# Altium footprint library Chips.PcbLib: 116 footprints (part 7 of 8)
Each footprint in its own frame and in the unit in brackets; x right, y up, seen from the top. Pads: shape width x height; smd on the part's side, far side on the other; paste and mask are expansions set on the pad; w line width, h text height; cw(c..) or ccw(c..) is an arc to the next point about the centre after c.
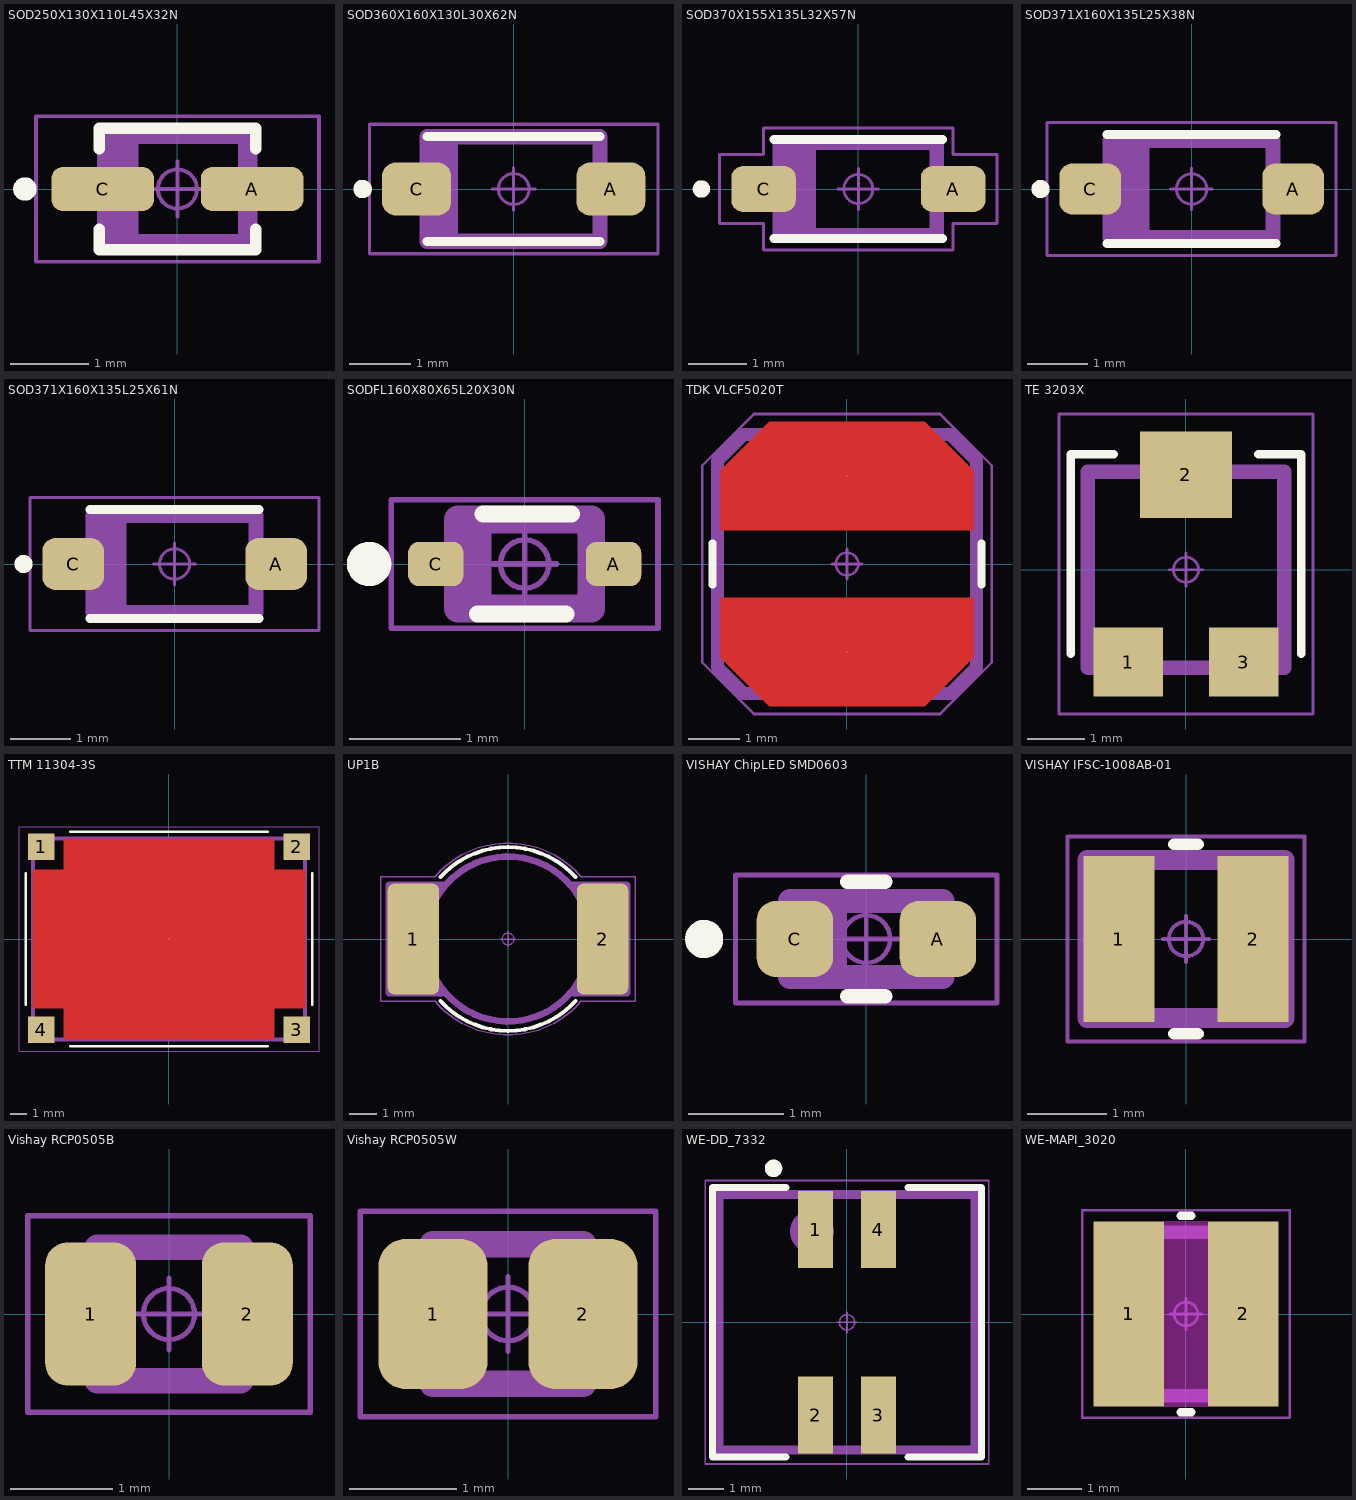
[diagram p6: the footprints below, top view; thin cyan lines are the x and y axes]

## SOD250X130X110L45X32N [mm] "Diode, Small Outline Diode (SOD); 1.75 mm L X 1.30 mm W X 1.10 mm H body"
height 1.1
pads (2):
  rrect50% 1.31x0.56 smd: A(0.955,0) C(-0.955,0)
Top Overlay:
  circle w0.15: c-1.95,0 r0.075
  lines w0.145: -1,-0.515 -1,-0.775 1,-0.775 1,-0.515 ; -1,0.515 -1,0.775 1,0.775 1,0.515
Top Assembly:
  rectangle: -0.9,-0.7 -0.5,0.7
  lines w0.25: -0.9,-0.7 -0.9,0.7 0.9,0.7 0.9,-0.7 -0.9,-0.7
  text ".Designator" at -2.1,1.2 h1.5
Top Courtyard:
  circle w0.05: c0,0 r0.25
  lines w0.05: -0.35,0 0.35,0 ; 0,-0.35 0,0.35 ; -1.81,-0.93 -1.81,0.93 1.81,0.93 1.81,-0.93 -1.81,-0.93
3D body "SOD250X130X110L45X32.STEP": height 1.1, standoff 0, extent -1.25,-0.65 1.25,0.65

## SOD360X160X130L30X62N [mm] "Diode, Small Outline Diode (SOD); 2.675 mm L X 1.60 mm W X 1.30 mm H body"
height 1.3
pads (2):
  rrect51% 1.12x0.86 smd: A(1.575,0) C(-1.575,0)
Top Overlay:
  circle w0.15: c-2.45,0 r0.075
  lines w0.15: -1.4,-0.85 1.4,-0.85 ; -1.4,0.85 1.4,0.85
Top Assembly:
  rectangle: -1.375,-0.85 -0.9,0.825
  lines w0.25: -1.4,-0.85 -1.4,0.85 1.4,0.85 1.4,-0.85 -1.4,-0.85
  text ".Designator" at 0,0 h1.5
Top Courtyard:
  circle w0.05: c0,0 r0.25
  lines w0.05: -0.35,0 0.35,0 ; 0,-0.35 0,0.35 ; -2.34,-1.05 -2.34,1.05 2.34,1.05 2.34,-1.05 -2.34,-1.05
3D body "SOD360X160X130L30X62.STEP": height 1.3, standoff 0, extent -1.8,-0.8 1.8,0.8

## SOD370X155X135L32X57N [mm] "Diode, Small Outline Diode (SOD); 2.70 mm L X 1.55 mm W X 1.35 mm H body"
height 1.35
pads (2):
  rrect51% 1.11x0.79 smd: A(1.63,0) C(-1.63,0)
Top Overlay:
  circle w0.15: c-2.7,0 r0.075
  lines w0.15: -1.45,-0.85 1.45,-0.85 ; -1.45,0.85 1.45,0.85
Top Assembly:
  rectangle: -1.35,-0.8 -0.73,0.8
  lines w0.25: -1.35,-0.8 1.35,-0.8 1.35,0.8 -1.35,0.8 -1.35,-0.8
  text ".Designator" at -0.6,-0.5 h1.5
Top Courtyard:
  circle w0.05: c0,0 r0.25
  lines w0.05: -0.35,0 0.35,0 ; 0,-0.35 0,0.35 ; -2.385,-0.595 -1.63,-0.595 -1.63,-1.05 1.63,-1.05 1.63,-0.595 2.385,-0.595 2.385,0.595 1.63,0.595 1.63,1.05 -1.63,1.05 -1.63,0.595 -2.385,0.595 -2.385,-0.595
3D body "SOD370X155X135L32X57.STEP": height 1.35, standoff 0, extent -1.85,-0.775 1.85,0.775

## SOD371X160X135L25X38N [mm] "Diode, Small Outline Diode (SOD); 2.69 mm L X 1.60 mm W X 1.35 mm H body"
height 1.35
pads (2):
  rrect50% 1.02x0.84 smd: A(1.68,0) C(-1.68,0)
Top Overlay:
  circle w0.15: c-2.5,0 r0.075
  lines w0.15: -1.4,-0.9 1.4,-0.9 ; -1.4,0.9 1.4,0.9
Top Assembly:
  rectangle: -1.35,-0.8 -0.7,0.8
  lines w0.25: -1.35,-0.8 -1.35,0.8 1.35,0.8 1.35,-0.8 -1.35,-0.8
  text ".Designator" at -1.4,1.3 h1.5
Top Courtyard:
  circle w0.05: c0,0 r0.25
  lines w0.05: -0.35,0 0.35,0 ; 0,-0.35 0,0.35 ; -2.39,-1.1 -2.39,1.1 2.39,1.1 2.39,-1.1 -2.39,-1.1
3D body "SOD371X160X135L25X38.STEP": height 1.35, standoff 0, extent -1.855,-0.8 1.855,0.8

## SOD371X160X135L25X61N [mm] "Diode, Small Outline Diode (SOD); 2.69 mm L X 1.60 mm W X 1.35 mm H body"
height 1.35
pads (2):
  rrect51% 1.02x0.86 smd: A(1.68,0) C(-1.68,0)
Top Overlay:
  circle w0.15: c-2.5,0 r0.075
  lines w0.15: -1.4,-0.9 1.4,-0.9 ; -1.4,0.9 1.4,0.9
Top Assembly:
  rectangle: -1.3,-0.8 -0.8,0.8
  lines w0.25: -1.35,-0.8 -1.35,0.8 1.35,0.8 1.35,-0.8 -1.35,-0.8
  text ".Designator" at -3.378,1.661 h1.5
Top Courtyard:
  circle w0.05: c0,0 r0.25
  lines w0.05: -0.35,0 0.35,0 ; 0,-0.35 0,0.35 ; -2.39,-1.1 -2.39,1.1 2.39,1.1 2.39,-1.1 -2.39,-1.1
3D body "SOD371X160X135L25X61.STEP": height 1.35, standoff 0, extent -1.855,-0.8 1.855,0.8

## SODFL160X80X65L20X30N [mm] "Diode, Small Outline Diode Flat Lead (SODFL); 1.20 mm L X 0.80 mm W X 0.65 mm H body"
height 0.65
pads (2):
  rrect50% 0.5x0.4 smd: A(0.8,0) C(-0.8,0)
Top Overlay:
  circle w0.2: c-1.4,0 r0.1
  lines w0.15: -0.425,-0.45 0.375,-0.45 ; -0.375,0.45 0.425,0.45
Top Assembly:
  rectangle: -0.6,-0.4 -0.3,0.4
  lines w0.25: -0.6,-0.4 -0.6,0.4 0.6,0.4 0.6,-0.4 -0.6,-0.4
  text ".Designator" at -2,0.8 h1.5
Top Courtyard:
  circle w0.05: c0,0 r0.218
  lines w0.05: -0.29,0 0.29,0 ; 0,-0.29 0,0.29 ; -1.2,-0.58 -1.2,0.58 1.2,0.58 1.2,-0.58 -1.2,-0.58
3D body "SODFL160X80X65L20X30.STEP": height 0.65, standoff 0, extent -0.8,-0.4 0.8,0.4

## TDK VLCF5020T [mil] "TDK 5x5x2 WOUND FERRITE"
height 78.74
pads (2):
  round 1 smd: 1(0,66.93) 2(0,-66.93)
Top Layer:
  region: -96.46,-25.59 96.46,-25.59 96.46,-70.87 59.06,-108.27 -59.06,-108.27 -96.46,-70.87
  region: 96.46,25.59 -96.46,25.59 -96.46,70.87 -59.06,108.27 59.06,108.27 96.46,70.87
Top Overlay:
  lines w5.91: -102.36,-15.75 -102.36,15.75 ; 102.36,-15.75 102.36,15.75
Top Assembly:
  circle w9.84: c0,70.87 r11.14
  lines w9.84: -98.35,-78.66 -78.66,-98.35 78.66,-98.35 98.35,-78.66 98.35,78.66 78.66,98.35 -78.66,98.35 -98.35,78.66 -98.35,-78.66
  text ".Designator" at -221.92,-22.28 h98.43
Top Courtyard:
  circle w1.97: c0,0 r8.56
  lines w1.97: -11.42,0 11.42,0 ; 0,-11.42 0,11.42 ; -110.16,-74.72 -70.79,-114.09 70.79,-114.09 110.16,-74.72 110.16,74.73 70.79,114.1 -70.79,114.1 -110.16,74.73 -110.16,-74.72
3D body "vlcf5020_Colors.STEP": height 72.83, standoff 0.79, extent -98.43,-98.43 98.43,98.43

## TE 3203X [mm] "TE Connectivity 3203X"
height 2
pads (3):
  rect 1.2x1.2 smd: 1(-1,-1.6) 3(1,-1.6)
  rect 1.6x1.5 smd: 2(0,1.65)
Top Overlay:
  lines w0.15: -2,-1.45 -2,2 -1.25,2 ; 1.25,2 2,2 2,-1.45
Top Assembly:
  lines w0.25: -1.7,-1.7 1.7,-1.7 1.7,1.7 -1.7,1.7 -1.7,-1.7
  text ".Designator" at -3.378,-0.339 h1.5
Top Courtyard:
  circle w0.05: c0,0 r0.218
  lines w0.05: -0.29,0 0.29,0 ; 0,-0.29 0,0.29 ; -2.2,-2.5 2.2,-2.5 2.2,2.7 -2.2,2.7 -2.2,-2.5
3D body "TE 3203X.STEP": height 2.01, standoff 0.01, extent -1.739,-1.757 1.701,1.743

## TTM 11304-3S [mm] "TTM Xinger 0.65 x 0.48"
height 1.9
pads (5):
  rect 1.6x1.6 smd: 1(-7.755,5.6) 2(7.755,5.6) 3(7.755,-5.5) 4(-7.755,-5.5)
  round 0.025 smd: 5(0,0)
Top Layer:
  region: -8.255,-4.215 -6.375,-4.215 -6.375,-6.095 0,-6.1 6.375,-6.095 6.375,-4.215 8.255,-4.215 8.255,4.215 6.375,4.215 6.375,6.095 0,6.1 -6.375,6.095 -6.375,4.215 -8.255,4.215
Top Overlay:
  lines w0.15: -8.7,-4 -8.7,4 ; -6,-6.5 6,-6.5 ; -6,6.5 6,6.5 ; 8.7,-4 8.7,4
Top Assembly:
  lines w0.25: -8.255,-6.095 8.255,-6.095 8.255,6.095 -8.255,6.095 -8.255,-6.095
  text ".Designator" at -3.378,-0.339 h1.5
Top Courtyard:
  circle w0.05: c0,0 r0.218
  lines w0.05: -0.29,0 0.29,0 ; 0,-0.29 0,0.29 ; -9.1,-6.8 9.1,-6.8 9.1,6.8 -9.1,6.8 -9.1,-6.8
3D body "TTM 11304-3S.STEP": height 1.91, standoff 0, extent -8.255,-6.095 8.255,6.095

## UP1B [mm] "UP1B CASE Coiltronics"
height 5
pads (2):
  rrect25% 1.9x4.1 smd: 1(-3.5,0) 2(3.5,0)
Top Overlay:
  lines w0.15: -2.5,-2.3 ccw(c0,0) 2.5,-2.3 ; -2.5,2.3 cw(c0,0) 2.5,2.3
Top Assembly:
  circle w0.25: c0,0 r3.05
  lines w0.25: -2.3,-2 -4.4,-2 -4.4,2 -2.3,2 ; 2.3,-2 4.4,-2 4.4,2 2.3,2
  text ".Designator" at -2.4,-0.3 h1.5
Top Courtyard:
  circle w0.05: c0,0 r0.218
  lines w0.05: -0.29,0 0.29,0 ; 0,-0.29 0,0.29 ; -4.7,-2.3 -4.7,2.3 -2.7,2.3 cw(c0,0) 2.7,2.3 4.7,2.3 4.7,-2.3 2.7,-2.3 cw(c0,0) -2.7,-2.3 -4.7,-2.3
3D body "UP1B.STEP": height 5, standoff 0, extent -4.445,-3.05 4.445,3.05

## VISHAY ChipLED SMD0603 [mm] "Vishay LED SMD0603 White"
height 0.65
pads (2):
  rrect50% 0.8x0.8 smd: A(0.75,0) C(-0.75,0)
Top Overlay:
  circle w0.25: c-1.7,0 r0.075
  lines w0.15: -0.2,-0.6 0.2,-0.6 ; -0.2,0.6 0.2,0.6
Top Assembly:
  rectangle: -0.8,-0.4 -0.2,0.4
  lines w0.25: -0.8,-0.4 0.8,-0.4 0.8,0.4 -0.8,0.4 -0.8,-0.4
  text ".Designator" at -5.637,1.334 h2.5
Top Courtyard:
  circle w0.05: c0,0 r0.25
  lines w0.05: -0.335,0 0.335,0 ; 0,-0.335 0,0.335 ; -1.37,-0.67 1.37,-0.67 1.37,0.67 -1.37,0.67 -1.37,-0.67
3D body "80436ChipLED_SMD0603.stp": height 0.53, standoff -0.02, extent -0.8,-0.4 0.8,0.4

## VISHAY IFSC-1008AB-01 [mm] "VISHAY Low Profile Inductor, 2x2.5"
height 1.2
pads (2):
  rect 0.9x2.1 smd: 1(-0.85,0) 2(0.85,0)
Top Overlay:
  lines w0.15: -0.15,-1.2 0.15,-1.2 ; -0.15,1.2 0.15,1.2
Top Assembly:
  lines w0.25: -1.25,-1 1.25,-1 1.25,1 -1.25,1 -1.25,-1
  text ".Designator" at -3.378,-0.339 h1.5
Top Courtyard:
  circle w0.05: c0,0 r0.218
  lines w0.05: -0.29,0 0.29,0 ; 0,-0.29 0,0.29 ; -1.5,-1.3 1.5,-1.3 1.5,1.3 -1.5,1.3 -1.5,-1.3
3D body "IFSC-1008AB-01.STEP": height 1.22, standoff 0.01, extent -1.32,-1.11 1.32,1.09

## Vishay RCP0505B [mm] "Resistor, Chip; 1.40 mm L X 1.27 mm W X 0.64 mm H body"
height 0.64
pads (2):
  rrect50% 0.89x1.4 smd: 1(-0.765,0) 2(0.765,0)
Top Assembly:
  lines w0.25: -0.7,-0.65 0.7,-0.65 0.7,0.65 -0.7,0.65 -0.7,-0.65
  text ".Designator" at -3.378,1.161 h1.5
Top Courtyard:
  circle w0.05: c0,0 r0.25
  lines w0.05: -0.35,0 0.35,0 ; 0,-0.35 0,0.35 ; -1.38,-0.96 1.38,-0.96 1.38,0.96 -1.38,0.96 -1.38,-0.96
3D body "RCP0505B.STEP": height 0.64, standoff 0, extent -0.7,-0.635 0.7,0.635

## Vishay RCP0505W [mm] "Resistor, Chip; 1.40 mm L X 1.27 mm W X 0.64 mm H body"
height 0.64
pads (2):
  rrect50% 1.02x1.4 smd: 1(-0.7,0) 2(0.7,0)
Top Assembly:
  lines w0.25: -0.7,-0.65 -0.7,0.65 0.7,0.65 0.7,-0.65 -0.7,-0.65
  text ".Designator" at -3.378,1.161 h1.5
Top Courtyard:
  circle w0.05: c0,0 r0.25
  lines w0.05: -0.35,0 0.35,0 ; 0,-0.35 0,0.35 ; -1.38,-0.96 -1.38,0.96 1.38,0.96 1.38,-0.96 -1.38,-0.96
3D body "RCP0505W.STEP": height 0.64, standoff 0, extent -0.7,-0.635 0.7,0.635

## WE-DD_7332 [mm] "SMT Shielded Coupled Inductor, 4-Leads, body 7.3x7.3mm"
height 4
pads (4):
  rect 1x2.2 smd: 1(-0.9,2.65) 2(-0.9,-2.65) 3(0.9,-2.65) 4(0.9,2.65)
Top Overlay:
  circle w0.25: c-2.1,4.4 r0.125
  lines w0.2: -1.75,-3.85 -3.85,-3.85 -3.85,3.85 -1.75,3.85 ; 1.75,-3.85 3.85,-3.85 3.85,3.85 1.75,3.85
Top Assembly:
  circle w0.25: c-1,2.6 r0.5
  lines w0.25: -3.65,-3.65 3.65,-3.65 3.65,3.65 -3.65,3.65 -3.65,-3.65
  text ".Designator" at -3.378,-0.339 h1.5
Top Courtyard:
  circle w0.05: c0,0 r0.218
  lines w0.05: -0.29,0 0.29,0 ; 0,-0.29 0,0.29 ; -4.05,-4.05 4.05,-4.05 4.05,4.05 -4.05,4.05 -4.05,-4.05
3D body "IndDD 7332 - 744878xxx_S.stp": height 4.03, standoff 0.03, extent -3.65,-3.65 3.65,3.65

## WE-MAPI_3020 [mm] "SMT Shielded Power Inductor, body 3.00 x 3.00 mm"
height 2
pads (2):
  rect 1.3x3.4 smd: 1(-1.05,0) 2(1.05,0)
Top Layer keep-out:
  region: -0.4,1.7 0.4,1.7 0.4,-1.7 -0.4,-1.7
Top Overlay:
  lines w0.15: -0.1,-1.8 0.1,-1.8 ; -0.1,1.8 0.1,1.8
Top Assembly:
  lines w0.25: -1.5,-1.5 1.5,-1.5 1.5,1.5 -1.5,1.5 -1.5,-1.5
  text ".Designator" at -3.378,-0.339 h1.5
Top Courtyard:
  circle w0.05: c0,0 r0.218
  lines w0.05: -0.29,0 0.29,0 ; 0,-0.29 0,0.29 ; -1.9,-1.9 1.9,-1.9 1.9,1.9 -1.9,1.9 -1.9,-1.9
3D body "WE-IndMAPI_SSMC-30xx.stp": height 2.01, standoff 0.01, extent -1.5,-1.5 1.5,1.5